# EAGLE library part PIC18F25K22_SOIC (library libami)
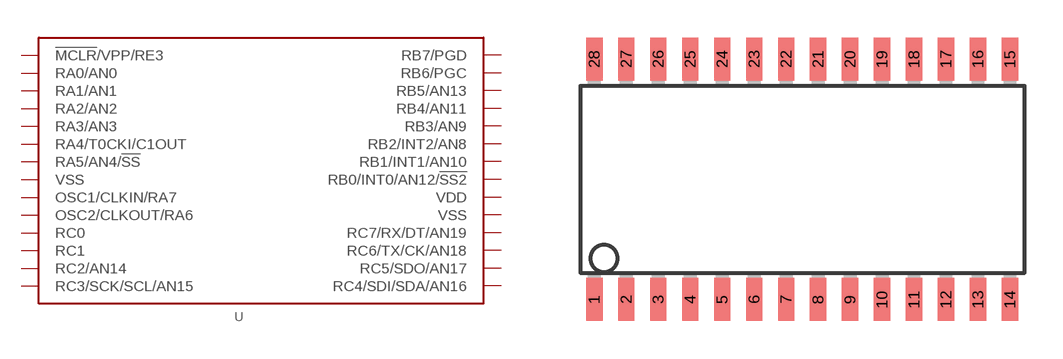
[diagram p14: symbol with the pads of SO28W; footprint SO28W]

Designator prefix -

## PIC18F25K22_SOIC  [SO28W]
1  !MCLR!/VPP/RE3  pwr
2  RA0/AN0
3  RA1/AN1
4  RA2/AN2
5  RA3/AN3
6  RA4/T0CKI/C1OUT
7  RA5/AN4/!SS!
8  VSS  pwr
9  OSC1/CLKIN/RA7
10  OSC2/CLKOUT/RA6
11  RC0
12  RC1
13  RC2/AN14
14  RC3/SCK/SCL/AN15
15  RC4/SDI/SDA/AN16
16  RC5/SDO/AN17
17  RC6/TX/CK/AN18
18  RC7/RX/DT/AN19
19  VSS  pwr
20  VDD  pwr
21  RB0/INT0/AN12/!SS2!
22  RB1/INT1/AN10
23  RB2/INT2/AN8
24  RB3/AN9
25  RB4/AN11
26  RB5/AN13
27  RB6/PGC
28  RB7/PGD

## Footprint SO28W (pad centres in mm)
28-Lead Plastic Small Outline (SO) Wide, 300 mil Body (SOIC) Source: http://ww1.microchip.com/downloads/en/devicedoc/39632c.pdf
smd 0.65 x 1.7: 1 -7.62,-4.78; 2 -6.35,-4.78; 3 -5.08,-4.78; 4 -3.81,-4.78; 5 -2.54,-4.78; 6 -1.27,-4.78; 7 0,-4.78; 8 1.27,-4.78; 9 2.54,-4.78; 10 3.81,-4.78; 11 5.08,-4.78; 12 6.35,-4.78; 13 7.62,-4.78; 14 8.89,-4.78; 15 8.89,4.78; 16 7.62,4.78; 17 6.35,4.78; 18 5.08,4.78; 19 3.81,4.78; 20 2.54,4.78; 21 1.27,4.78; 22 0,4.78; 23 -1.27,4.78; 24 -2.54,4.78; 25 -3.81,4.78; 26 -5.08,4.78; 27 -6.35,4.78; 28 -7.62,4.78